# Altium footprint library TFM322512ALMAR47MTAA.PcbLib: 3 footprints
Each footprint in its own frame and in the unit in brackets; x right, y up, seen from the top. Pads: shape width x height; smd on the part's side, far side on the other; paste and mask are expansions set on the pad; w line width, h text height; cw(c..) or ccw(c..) is an arc to the next point about the centre after c.
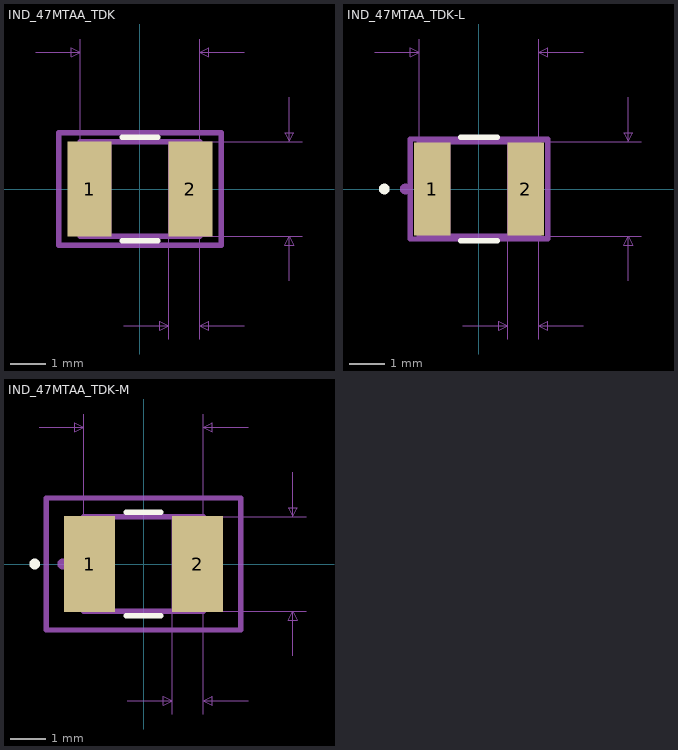
[diagram p0: the footprints below, top view; thin cyan lines are the x and y axes]

## IND_47MTAA_TDK [mil]
pads (2):
  rect 49x106 all layers, no hole: 1(-56.5,0) 2(56.5,0)
Top Layer keep-out:
  region: 
Top Overlay:
  lines w6: -19.89,-58 19.89,-58 ; -19.89,58 19.89,58
Outline:
  lines w1: -67,-53 -67,53 ; -67,-53 -32,-53 -32,53 -67,53 ; -67,-53 67,-53 ; -67,-53 -67,53 ; -67,53 67,53 ; 67,-53 32,-53 32,53 67,53 ; 67,-53 67,53 ; 67,-53 67,53
Courtyard Bottom:
  lines w1: -117,153 -67,153 ; -67,0 -67,168 ; -18,-153 32,-153 ; 0,-53 182,-53 ; 0,53 182,53 ; 32,-168 32,0 ; 67,-168 67,0 67,168 ; 117,-153 67,-153 ; 117,153 67,153 ; 167,-103 167,-53 ; 167,103 167,53 ; -67,153 -77,158 -77,148 -67,153 ; 32,-153 22,-148 22,-158 32,-153 ; 67,-153 77,-148 77,-158 67,-153 ; 67,153 77,158 77,148 67,153 ; 167,-53 162,-63 172,-63 167,-53 ; 167,53 162,63 172,63 167,53
  lines w6: -91,-63 -91,63 91,63 91,-63 -91,-63 ; -67,-53 -67,53 67,53 67,-53 -67,-53
  text "Default Padstyle: RX49Y106D0T" at 0,-273 h31.25
  text "Alt 1 Padstyle: OX60Y90D30P" at 0,-333 h31.25
  text "Alt 2 Padstyle: OX90Y60D30P" at 0,-393 h31.25
  text "0.106in/2.692mm" at 187,0 h15.62
  text "0.134in/3.404mm" at 0,173 h15.62
  text "0.035in/0.889mm" at 49.5,-173 h15.62
Courtyard Bottom keep-out:
  region: 
  region: 
3D body: height 47.01, standoff 0, extent 40622.99,-4512.99 40757.01,-4407.01

## IND_47MTAA_TDK-L [mil]
pads (2):
  rect 41x104 all layers, no hole: 1(-52.5,0) 2(52.5,0)
Top Layer keep-out:
  region: 
Top Overlay:
  circle w6: c-106,0 r3
  lines w6: -20.35,-58 20.35,-58 ; -20.35,58 20.35,58
Outline:
  circle w1: c-47.5,0 r3
  lines w1: -67,-53 -67,53 ; -67,-53 67,-53 ; -67,-53 -32,-53 -32,53 -67,53 ; -67,-53 -67,53 ; -67,53 67,53 ; 67,-53 67,53 ; 67,-53 67,53 ; 67,-53 32,-53 32,53 67,53
Courtyard Bottom:
  circle w6: c-82.5,0 r3
  lines w1: -117,153 -67,153 ; -67,0 -67,168 ; -18,-153 32,-153 ; 0,-53 182,-53 ; 0,53 182,53 ; 32,-168 32,0 ; 67,-168 67,0 67,168 ; 117,-153 67,-153 ; 117,153 67,153 ; 167,-103 167,-53 ; 167,103 167,53 ; -67,153 -77,148 -77,158 -67,153 ; 32,-153 22,-158 22,-148 32,-153 ; 67,-153 77,-158 77,-148 67,-153 ; 67,153 77,148 77,158 67,153 ; 167,-53 172,-63 162,-63 167,-53 ; 167,53 172,63 162,63 167,53
  lines w6: -77,-56 77,-56 77,56 -77,56 -77,-56 ; -67,-53 67,-53 67,53 -67,53 -67,-53
  text "0.035in/0.889mm" at 49.5,-173 h15.62
  text "0.134in/3.404mm" at 0,173 h15.62
  text "0.106in/2.692mm" at 187,0 h15.62
  text "Alt 2 Padstyle: OX90Y60D30P" at 0,-392 h31.25
  text "Alt 1 Padstyle: OX60Y90D30P" at 0,-332 h31.25
  text "Default Padstyle: RX41Y104D0T" at 0,-272 h31.25
Courtyard Bottom keep-out:
  region: 
  region: 

## IND_47MTAA_TDK-M [mil]
pads (2):
  rect 57x108 all layers, no hole: 1(-60.5,0) 2(60.5,0)
Top Layer keep-out:
  region: 
Top Overlay:
  circle w6: c-122,0 r3
  lines w6: -19.53,-58 19.53,-58 ; -19.53,58 19.53,58
Outline:
  circle w1: c-55.5,0 r3
  lines w1: -67,-53 -67,53 ; -67,-53 67,-53 ; -67,-53 -32,-53 -32,53 -67,53 ; -67,-53 -67,53 ; -67,53 67,53 ; 67,-53 67,53 ; 67,-53 67,53 ; 67,-53 32,-53 32,53 67,53
Courtyard Bottom:
  circle w6: c-90.5,0 r3
  lines w1: -117,153 -67,153 ; -67,0 -67,168 ; -18,-153 32,-153 ; 0,-53 182,-53 ; 0,53 182,53 ; 32,-168 32,0 ; 67,-168 67,0 67,168 ; 117,-153 67,-153 ; 117,153 67,153 ; 167,-103 167,-53 ; 167,103 167,53 ; -67,153 -77,148 -77,158 -67,153 ; 32,-153 22,-158 22,-148 32,-153 ; 67,-153 77,-158 77,-148 67,-153 ; 67,153 77,148 77,158 67,153 ; 167,-53 172,-63 162,-63 167,-53 ; 167,53 172,63 162,63 167,53
  lines w6: -109,-74 109,-74 109,74 -109,74 -109,-74 ; -67,-53 67,-53 67,53 -67,53 -67,-53
  text "0.035in/0.889mm" at 49.5,-173 h15.62
  text "0.134in/3.404mm" at 0,173 h15.62
  text "0.106in/2.692mm" at 187,0 h15.62
  text "Alt 2 Padstyle: OX90Y60D30P" at 0,-394 h31.25
  text "Alt 1 Padstyle: OX60Y90D30P" at 0,-334 h31.25
  text "Default Padstyle: RX57Y108D0T" at 0,-274 h31.25
Courtyard Bottom keep-out:
  region: 
  region: 